# EAGLE library part DS2484R+T (library DS2484R_T)
Check prices <https://pricing.snapeda.com/parts/DS2484R%2BT/Maxim%20Integrated/view-part?ref=eda>
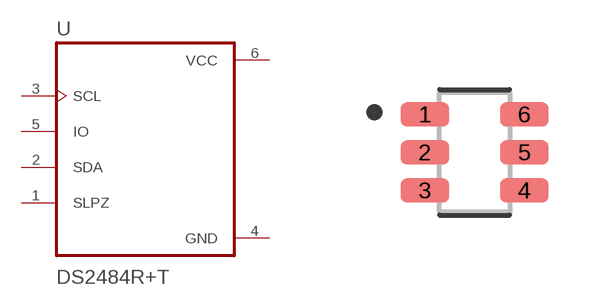
[diagram p0: symbol with the pads of SOT95P280X145-6N; footprint SOT95P280X145-6N]

Designator prefix -

## DS2484R+T (Availability: In Stock; Description: 1-Wire® Controller I²C Interface SOT-23-6; MF: Maxim Integrated; MP: DS2484R+T; Package: SOT-23-5 Maxim Integrated; Price: None)  [SOT95P280X145-6N]
1  SLPZ
2  SDA
3  SCL  in
4  GND  pwr
5  IO
6  VCC  pwr

## Footprint SOT95P280X145-6N (pad centres in mm)
smd 1.22 x 0.6: 1 -1.245,0.95; 2 -1.245,0; 3 -1.245,-0.95; 4 1.245,-0.95; 5 1.245,0; 6 1.245,0.95